# Altium schematic symbol library 贴片电阻0603.SCHLIB: 1 symbol
Pins are listed as number, name and electrical type; pins without a type are passive.

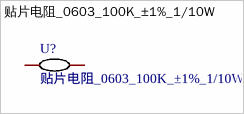
[diagram p0: symbol 贴片电阻_0603_100K_±1%_1/10W]

## 贴片电阻_0603_100K_±1%_1/10W
designator U?
Add into BOM: yes; Symbol: 贴片电阻_0603_100K_±1%_1/10W; Device: 贴片电阻_0603_100K_±1%_1/10W; LCSC Part Name: 贴片电阻_0603_100K_±1%_1/10W; Supplier Part: C9900009623; Manufacturer Part: 贴片电阻_0603_100K_±1%_1/10W; Supplier Footprint: R0603; JLCPCB Part Class: 扩展库; Supplier: LCSC; Convert to PCB: yes; Name: 贴片电阻_0603_100K_±1%_1/10W
footprint R0603
pins: 1, 2